# EAGLE library part FCI_8193_MICRO_USB (library pager)
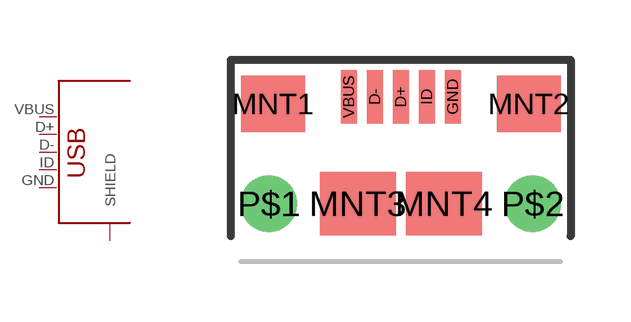
[diagram p0: symbol with the pads of FCI_MICRO_USB_8193; footprint FCI_MICRO_USB_8193]

Designator prefix X

## FCI_8193_MICRO_USB  [FCI_MICRO_USB_8193]
D+  D+
D-  D-
GND  GND
ID  ID
MNT1  SHIELD
MNT2  SHIELD
MNT3  SHIELD
MNT4  SHIELD
P$1  SHIELD
P$2  SHIELD
VBUS  VBUS

## Footprint FCI_MICRO_USB_8193 (pad centres in mm)
smd 0.4 x 1.35: D+ 0,2.675; D- -0.65,2.675; GND 1.3,2.675; ID 0.65,2.675; VBUS -1.3,2.675
smd 1.6 x 1.4: MNT1 -3.2,2.5; MNT2 3.2,2.5
smd 1.9 x 1.6: MNT3 -1.075,0; MNT4 1.075,0
drill 0.9: P$1 -3.3,0; P$2 3.3,0